# EAGLE library part BQ24090 (library Kunosheru)
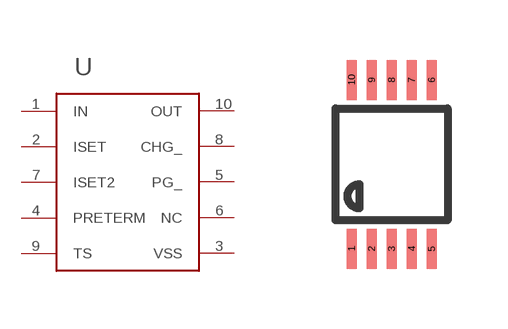
[diagram p6: symbol with the pads of MSOP10; footprint MSOP10]

Designator prefix -

## BQ24090  [MSOP10]
1  IN
2  ISET
3  VSS
4  PRETERM
5  PG_
6  NC
7  ISET2
8  CHG_
9  TS
10  OUT

## Footprint MSOP10 (pad centres in mm)
10-Lead Mini Small Outline Package [MSOP] (RM-10) Source: http://www.analog.com/UploadedFiles/Data_Sheets/35641221898805SSM2167_b.pdf COMPLIANT TO JEDEC STANDARDS MO-187BA
smd 0.25 x 1: 1 -1,-2.113; 2 -0.5,-2.113; 3 0,-2.113; 4 0.5,-2.113; 5 1,-2.113; 6 1,2.113; 7 0.5,2.113; 8 0,2.113; 9 -0.5,2.113; 10 -1,2.113